# EAGLE library part PI-AUX- (library jt-raspberry-pi)
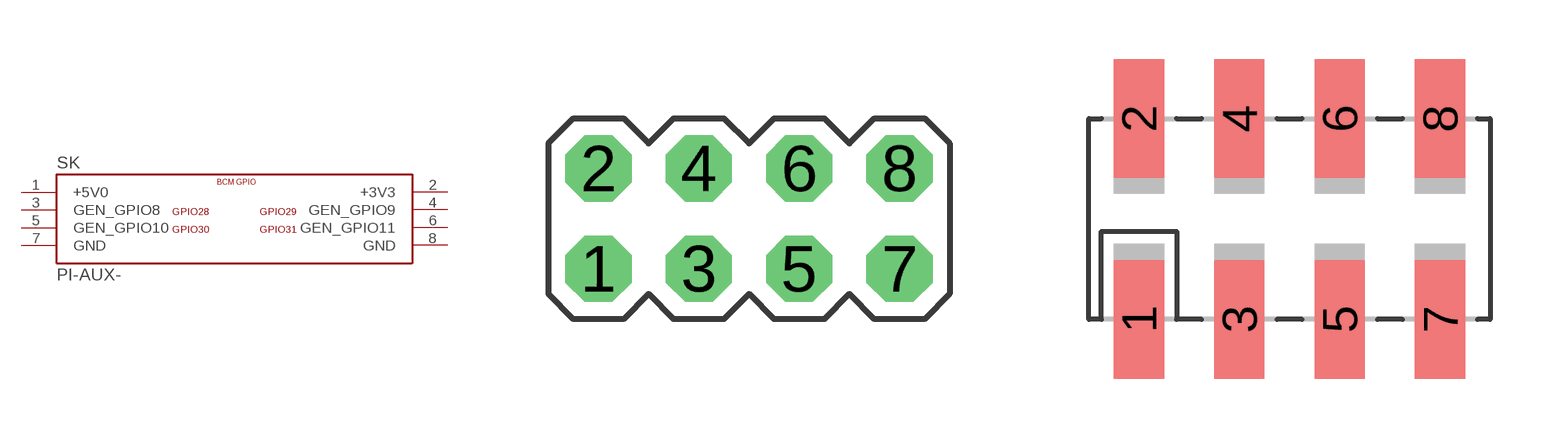
[diagram p2: symbol with the pads of GPIO-AUX-CONNECTOR; footprints GPIO-AUX-CONNECTOR, GPIO-AUX-CONNECTOR-SMT]

Designator prefix SK

## PI-AUX-AUX-PTH  [GPIO-AUX-CONNECTOR]
1  +5V0  pwr
2  +3V3  pwr
3  GEN_GPIO8
4  GEN_GPIO9
5  GEN_GPIO10
6  GEN_GPIO11
7  GND  pwr
8  GND  pwr

## PI-AUX-AUX-SMT  [GPIO-AUX-CONNECTOR-SMT]
Pads as for GPIO-AUX-CONNECTOR

## PI-AUX-AUX-SMTR  [GPIO-AUX-CONNECTOR-SMT-REV]
Pads as for GPIO-AUX-CONNECTOR

## Footprint GPIO-AUX-CONNECTOR (pad centres in mm)
Note that this is the right way around If you intend to mount this above the PI, then make it solder side
drill 1.016 pad 1.676 octagon: 1 -3.81,-1.27; 2 -3.81,1.27; 3 -1.27,-1.27; 4 -1.27,1.27; 5 1.27,-1.27; 6 1.27,1.27; 7 3.81,-1.27; 8 3.81,1.27

## Footprint GPIO-AUX-CONNECTOR-SMT (pad centres in mm)
smd 1.27 x 3: 1 -3.81,-2.54; 2 -3.81,2.54; 3 -1.27,-2.54; 4 -1.27,2.54; 5 1.27,-2.54; 6 1.27,2.54; 7 3.81,-2.54; 8 3.81,2.54

## Footprint GPIO-AUX-CONNECTOR-SMT-REV (pad centres in mm)
smd 1.27 x 3: 1 -3.81,2.54; 2 -3.81,-2.54; 3 -1.27,2.54; 4 -1.27,-2.54; 5 1.27,2.54; 6 1.27,-2.54; 7 3.81,2.54; 8 3.81,-2.54